# EAGLE library part LTC3553 (library Ava)
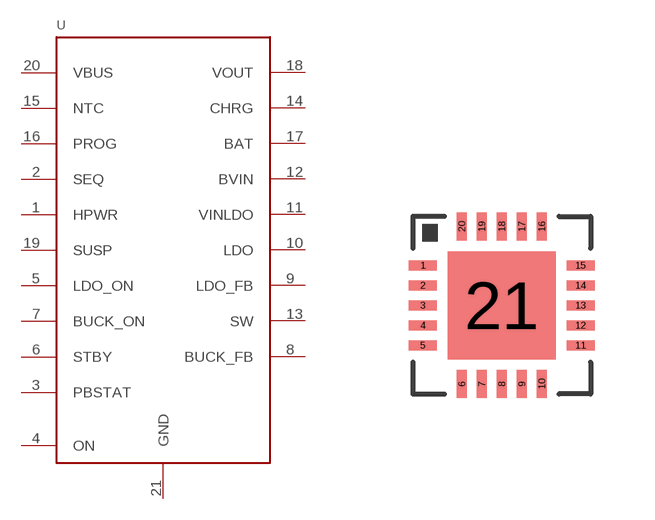
[diagram p47: symbol with the pads of QFN20+GNDPAD; footprint QFN20+GNDPAD]

Designator prefix -

## LTC3553  [QFN20+GNDPAD]
1  HPWR
2  SEQ
3  PBSTAT
4  ON
5  LDO_ON
6  STBY
7  BUCK_ON
8  BUCK_FB
9  LDO_FB
10  LDO
11  VINLDO
12  BVIN
13  SW
14  CHRG
15  NTC
16  PROG
17  BAT
18  VOUT
19  SUSP
20  VBUS
21  GND

## Footprint QFN20+GNDPAD (pad centres in mm)
smd 0.7 x 0.25: 1 -1.97,1; 2 -1.97,0.5; 3 -1.97,0; 4 -1.97,-0.5; 5 -1.97,-1; 11 1.97,-1; 12 1.97,-0.5; 13 1.97,0; 14 1.97,0.5; 15 1.97,1
smd 0.25 x 0.7: 6 -1,-1.97; 7 -0.5,-1.97; 8 0,-1.97; 9 0.5,-1.97; 10 1,-1.97; 16 1,1.97; 17 0.5,1.97; 18 0,1.97; 19 -0.5,1.97; 20 -1,1.97
smd 2.7 x 2.7: 21 0,0